# Altium integrated library TI Power Management PCMCIA and USB.IntLib: 328 symbols (part 6 of 14)
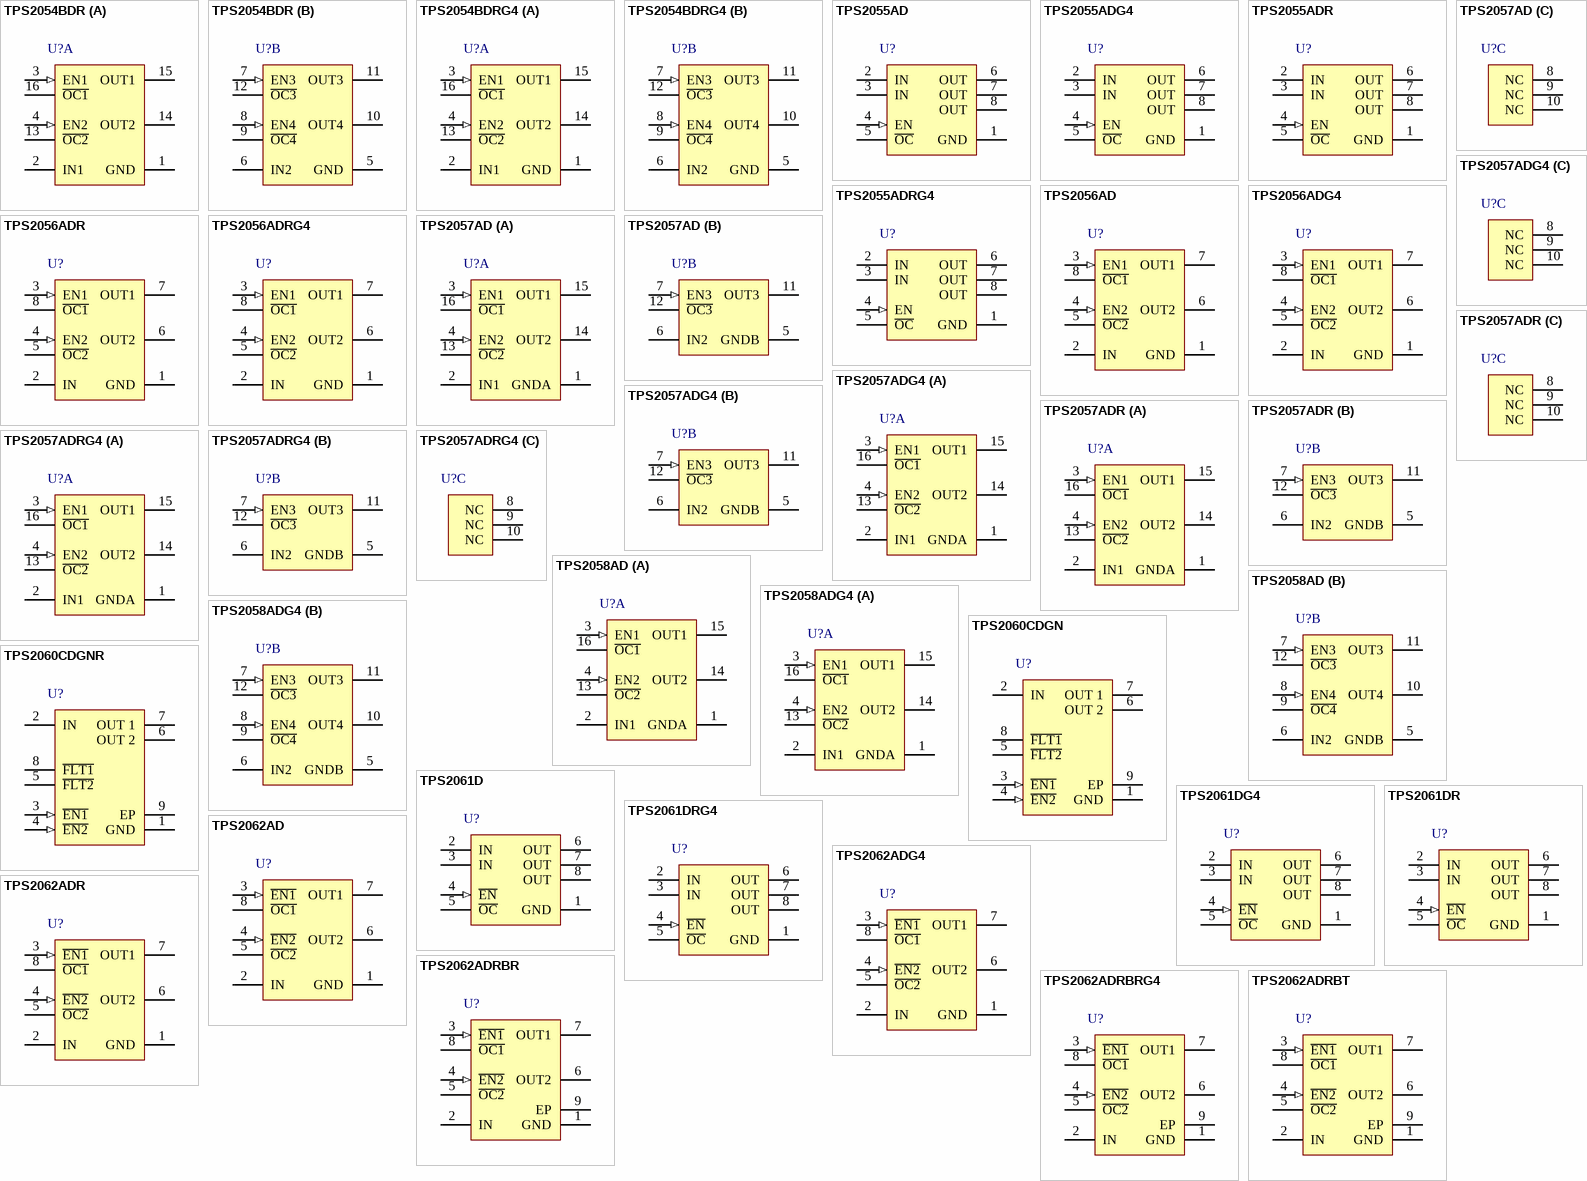
[diagram p15: symbols TPS2054BDR to TPS2062ADRBT]

## TPS2057ADRG4
designator U?
0.345 A, 2.7 to 5.5 V Triple (2 In / 3 Out) Hi-Side MOSFET, Fault Report, Act-High Enable, 0.5 A Current Limit, 0 to 85 degC, 16-pin SOIC (D), Green (RoHS & no Sb/Br); Manufacturer: Texas Instruments; PartNumber: TPS2057ADRG4; Continuous Current(Max)(A): 0.25; Current Limit(A): 0.5; Enable: Active High; NEMKO: TRUE; Number of Switches: 3; Rating: Catalog; rDS(on) per FET(Typ)(mOhms): 80; Vin(Max)(V): 5.5; Vin(Min)(V): 2.7; DatasheetVersion: SLVS251C; PackageVersion: revM, Jun-2011; PackageReference: D16; PackageDescription: 16-Pin Plastic Small Outline Integrated Circuit, 9.9 x 3.9 mm, Pitch 1.27 mm Pitch; Supplier 1: Digi-Key; Supplier Part Number 1: TPS2057ADRG4-ND; Supplier 2: Newark; Supplier Part Number 2: 54K1549; Supplier 3: Mouser; Supplier Part Number 3: 595-TPS2057ADRG4; Eco-Plan: Green (RoHS & no Sb/Br); UL Listed: TRUE; Mounting Technology: Surface Mount; Code_JEDEC: MS-012AC; ComponentLink1Description: Datasheet; ComponentLink1URL: http://www.ti.com/general/docs/lit/getliterature.tsp?genericPartNumber=TPS2057A&fileType=pdf
footprint D16_N (SOIC, 16-Leads, Body 9.9x3.9mm, Pitch 1.27mm, IPC Medium Density)
footprint D16_L (SOIC, 16-Leads, Body 9.9x3.9mm, Pitch 1.27mm, IPC High Density)
footprint D16_M (SOIC, 16-Leads, Body 9.9x3.9mm, Pitch 1.27mm, IPC Low Density)
part A pins: 1 GNDA (power) "Ground for IN1 switch and circuitry.", 2 IN1 (power) "Input voltage", 3 EN1 (in) "Enable input, logic high turns on power switch, IN1-OUT1.", 4 EN2 (in) "Enable input, logic high turns on power switch, IN1-OUT2.", 13 ~{OC2} (oc) "Overcurrent, open drain output active low, IN1-OUT2", 14 OUT2 (power) "Power-switch output, IN1-OUT2", 15 OUT1 (power) "Power-switch output, IN1-OUT1", 16 ~{OC1} (oc) "Overcurrent, open drain output active low, IN1-OUT1"
part B pins: 5 GNDB (power) "Ground for IN2 switch and circuitry.", 6 IN2 (power) "Input voltage", 7 EN3 (in) "Enable input, logic high turns on power switch, IN2-OUT3.", 11 OUT3 (power) "Power-switch output, IN2-OUT3", 12 ~{OC3} (oc) "Overcurrent, open drain output active low, IN2-OUT3"
part C pins: 8 NC "No connection", 9 NC "No connection", 10 NC "No connection"

## TPS2058AD
designator U?
0.345 A, 2.7 to 5.5 V Quad (2 In / 4 Out) Hi-Side MOSFET, Fault Report, Act-High Enable, 0.5 A Current Limit, 0 to 85 degC, 16-pin SOIC (D), Green (RoHS & no Sb/Br); Manufacturer: Texas Instruments; PartNumber: TPS2058AD; Continuous Current(Max)(A): 0.25; Current Limit(A): 0.5; Enable: Active High; NEMKO: TRUE; Number of Switches: 4; Rating: Catalog; rDS(on) per FET(Typ)(mOhms): 80; Vin(Max)(V): 5.5; Vin(Min)(V): 2.7; DatasheetVersion: SLVS251C; PackageVersion: revM, Jun-2011; PackageReference: D16; PackageDescription: 16-Pin Plastic Small Outline Integrated Circuit, 9.9 x 3.9 mm, Pitch 1.27 mm Pitch; Supplier 1: Digi-Key; Supplier Part Number 1: 296-3425-5-ND; Supplier 2: Newark; Supplier Part Number 2: 77C0027; Supplier 3: Mouser; Supplier Part Number 3: 595-TPS2058AD; Eco-Plan: Green (RoHS & no Sb/Br); UL Listed: TRUE; Mounting Technology: Surface Mount; Code_JEDEC: MS-012AC; ComponentLink1Description: Datasheet; ComponentLink1URL: http://www.ti.com/general/docs/lit/getliterature.tsp?genericPartNumber=TPS2058A&fileType=pdf
footprint D16_N (SOIC, 16-Leads, Body 9.9x3.9mm, Pitch 1.27mm, IPC Medium Density)
footprint D16_L (SOIC, 16-Leads, Body 9.9x3.9mm, Pitch 1.27mm, IPC High Density)
footprint D16_M (SOIC, 16-Leads, Body 9.9x3.9mm, Pitch 1.27mm, IPC Low Density)
part A pins: 1 GNDA (power) "Ground for IN1 switch and circuitry.", 2 IN1 (power) "Input voltage", 3 EN1 (in) "Enable input. Logic high turns on power switch, IN1-OUT1.", 4 EN2 (in) "Enable input. Logic high turns on power switch, IN1-OUT2.", 13 ~{OC2} (oc) "Overcurrent. Open drain output active low, IN1-OUT2", 14 OUT2 (power) "Power-switch output, IN1-OUT2", 15 OUT1 (power) "Power-switch output, IN1-OUT1", 16 ~{OC1} (oc) "Overcurrent. Open drain output active low, IN1-OUT1"
part B pins: 5 GNDB (power) "Ground for IN2 switch and circuitry.", 6 IN2 (power) "Input voltage", 7 EN3 (in) "Enable input. Logic high turns on power switch, IN2-OUT3.", 8 EN4 (in) "Enable input. Logic high turns on power switch, IN2-OUT4", 9 ~{OC4} (oc) "Overcurrent. Open drain output active low, IN2-OUT4", 10 OUT4 (power) "Power-switch output, IN2-OUT4", 11 OUT3 (power) "Power-switch output, IN2-OUT3", 12 ~{OC3} (oc) "Overcurrent. Open drain output active low, IN2-OUT3"

## TPS2058ADG4
designator U?
0.345 A, 2.7 to 5.5 V Quad (2 In / 4 Out) Hi-Side MOSFET, Fault Report, Act-High Enable, 0.5 A Current Limit, 0 to 85 degC, 16-pin SOIC (D), Green (RoHS & no Sb/Br); Manufacturer: Texas Instruments; PartNumber: TPS2058ADG4; Continuous Current(Max)(A): 0.25; Current Limit(A): 0.5; Enable: Active High; NEMKO: TRUE; Number of Switches: 4; Rating: Catalog; rDS(on) per FET(Typ)(mOhms): 80; Vin(Max)(V): 5.5; Vin(Min)(V): 2.7; DatasheetVersion: SLVS251C; PackageVersion: revM, Jun-2011; PackageReference: D16; PackageDescription: 16-Pin Plastic Small Outline Integrated Circuit, 9.9 x 3.9 mm, Pitch 1.27 mm Pitch; Supplier 1: Digi-Key; Supplier Part Number 1: TPS2058ADG4-ND; Supplier 2: Newark; Supplier Part Number 2: 70K5698; Supplier 3: Mouser; Supplier Part Number 3: 595-TPS2058ADG4; Eco-Plan: Green (RoHS & no Sb/Br); UL Listed: TRUE; Mounting Technology: Surface Mount; Code_JEDEC: MS-012AC; ComponentLink1Description: Datasheet; ComponentLink1URL: http://www.ti.com/general/docs/lit/getliterature.tsp?genericPartNumber=TPS2058A&fileType=pdf
footprint D16_N (SOIC, 16-Leads, Body 9.9x3.9mm, Pitch 1.27mm, IPC Medium Density)
footprint D16_L (SOIC, 16-Leads, Body 9.9x3.9mm, Pitch 1.27mm, IPC High Density)
footprint D16_M (SOIC, 16-Leads, Body 9.9x3.9mm, Pitch 1.27mm, IPC Low Density)
part A pins: 1 GNDA (power) "Ground for IN1 switch and circuitry.", 2 IN1 (power) "Input voltage", 3 EN1 (in) "Enable input. Logic high turns on power switch, IN1-OUT1.", 4 EN2 (in) "Enable input. Logic high turns on power switch, IN1-OUT2.", 13 ~{OC2} (oc) "Overcurrent. Open drain output active low, IN1-OUT2", 14 OUT2 (power) "Power-switch output, IN1-OUT2", 15 OUT1 (power) "Power-switch output, IN1-OUT1", 16 ~{OC1} (oc) "Overcurrent. Open drain output active low, IN1-OUT1"
part B pins: 5 GNDB (power) "Ground for IN2 switch and circuitry.", 6 IN2 (power) "Input voltage", 7 EN3 (in) "Enable input. Logic high turns on power switch, IN2-OUT3.", 8 EN4 (in) "Enable input. Logic high turns on power switch, IN2-OUT4", 9 ~{OC4} (oc) "Overcurrent. Open drain output active low, IN2-OUT4", 10 OUT4 (power) "Power-switch output, IN2-OUT4", 11 OUT3 (power) "Power-switch output, IN2-OUT3", 12 ~{OC3} (oc) "Overcurrent. Open drain output active low, IN2-OUT3"

## TPS2060CDGN
designator U?
Dual-Channel, Current-Limited, Power-Distribution Switch, 1.72 to 2.86 A Current Limit, -40 to 85 degC, 8-pin MSOP-PowerPAD (DGN), Green (RoHS & no Sb/Br); Manufacturer: Texas Instruments; PartNumber: TPS2060CDGN; Continuous Current(Max)(A): 1.5; Current Limit Accuracy @ 1A: +/- 25%; Current Limit Topology: Constant-Current; Enable: Active Low; Number of Switches: 2; Rating: Catalog; rDS(on) per FET(Typ)(mOhms): 70; Vin(Max)(V): 5.5; Vin(Min)(V): 4.5; DatasheetVersion: SLVSAX6E; PackageVersion: revF, May-2011; PackageReference: DGN8-1760X1425TP; PackageDescription: 8-Pin PowerPAD Plastic Small Outline Package 3 x 3 mm Body ,0.65 mm Pitch, Exposed Pad; Supplier 1: Digi-Key; Supplier Part Number 1: 296-30411-5-ND; Supplier 2: Farnell; Supplier Part Number 2: 2099915; Supplier 3: Newark; Supplier Part Number 3: 05W5844; Supplier 4: Newark; Supplier Part Number 4: 94T1844; Supplier 5: Mouser; Supplier Part Number 5: 595-TPS2060CDGN; Current Limit(A): 1.72 to 2.86; Eco-Plan: Green (RoHS & no Sb/Br); Mounting Technology: Surface Mount; Code_JEDEC: MO-187-AA-T; ComponentLink1Description: Datasheet; ComponentLink1URL: http://www.ti.com/general/docs/lit/getliterature.tsp?genericPartNumber=TPS2060C&fileType=pdf
footprint DGN8-1760X1425TP_N (TSOP, 8-Leads, Body 3x3mm, Pitch 0.65mm, Thermal Pad 1.89x1.57mm, IPC Medium Density)
footprint DGN8-1760X1425TP_L (TSOP, 8-Leads, Body 3x3mm, Pitch 0.65mm, Thermal Pad 1.89x1.57mm, IPC High Density)
footprint DGN8-1760X1425TP_M (TSOP, 8-Leads, Body 3x3mm, Pitch 0.65mm, Thermal Pad 1.89x1.57mm, IPC Low Density)
pins: 1 GND (power) "Ground connection", 2 IN (power) "Input voltage and power-switch drain; connect a 0.1 uF or greater ceramic capacitor from IN to GND close to the IC", 3 ~{EN1} (in) "Enable input channel 1, logic low turns on power switch", 4 ~{EN2} (in) "Enable input channel 2, logic low turns on power switch", 5 ~{FLT2} (hiz) "Active-low open-drain output, asserted during overcurrent, or overtemperature conditions on channel 2", 6 OUT 2 (power) "Power-switch output channel 2, connected to load", 7 OUT 1 (power) "Power-switch output channel 1, connected to load", 8 ~{FLT1} (hiz) "Active-low open-drain output, asserted during over-current, or overtemperature conditions on channel 1", 9 EP (power) "Internally connected to GND; used to heat-sink the part to the circuit board traces. Connect PAD to GND plane as a heatsink."

## TPS2060CDGNR
designator U?
Dual-Channel, Current-Limited, Power-Distribution Switch, 1.72 to 2.86 A Current Limit, -40 to 85 degC, 8-pin MSOP-PowerPAD (DGN), Green (RoHS & no Sb/Br); Manufacturer: Texas Instruments; PartNumber: TPS2060CDGNR; Continuous Current(Max)(A): 1.5; Current Limit Accuracy @ 1A: +/- 25%; Current Limit Topology: Constant-Current; Enable: Active Low; Number of Switches: 2; Rating: Catalog; rDS(on) per FET(Typ)(mOhms): 70; Vin(Max)(V): 5.5; Vin(Min)(V): 4.5; DatasheetVersion: SLVSAX6E; PackageVersion: revF, May-2011; PackageReference: DGN8-1760X1425TP; PackageDescription: 8-Pin PowerPAD Plastic Small Outline Package 3 x 3 mm Body ,0.65 mm Pitch, Exposed Pad; Supplier 1: Digi-Key; Supplier Part Number 1: TPS2060CDGNR-ND; Supplier 2: Newark; Supplier Part Number 2: 94T1845; Supplier 3: Mouser; Supplier Part Number 3: 595-TPS2060CDGNR; Current Limit(A): 1.72 to 2.86; Eco-Plan: Green (RoHS & no Sb/Br); Mounting Technology: Surface Mount; Code_JEDEC: MO-187-AA-T; ComponentLink1Description: Datasheet; ComponentLink1URL: http://www.ti.com/general/docs/lit/getliterature.tsp?genericPartNumber=TPS2060C&fileType=pdf
footprint DGN8-1760X1425TP_N (TSOP, 8-Leads, Body 3x3mm, Pitch 0.65mm, Thermal Pad 1.89x1.57mm, IPC Medium Density)
footprint DGN8-1760X1425TP_L (TSOP, 8-Leads, Body 3x3mm, Pitch 0.65mm, Thermal Pad 1.89x1.57mm, IPC High Density)
footprint DGN8-1760X1425TP_M (TSOP, 8-Leads, Body 3x3mm, Pitch 0.65mm, Thermal Pad 1.89x1.57mm, IPC Low Density)
pins: 1 GND (power) "Ground connection", 2 IN (power) "Input voltage and power-switch drain; connect a 0.1 uF or greater ceramic capacitor from IN to GND close to the IC", 3 ~{EN1} (in) "Enable input channel 1, logic low turns on power switch", 4 ~{EN2} (in) "Enable input channel 2, logic low turns on power switch", 5 ~{FLT2} (hiz) "Active-low open-drain output, asserted during overcurrent, or overtemperature conditions on channel 2", 6 OUT 2 (power) "Power-switch output channel 2, connected to load", 7 OUT 1 (power) "Power-switch output channel 1, connected to load", 8 ~{FLT1} (hiz) "Active-low open-drain output, asserted during over-current, or overtemperature conditions on channel 1", 9 EP (power) "Internally connected to GND; used to heat-sink the part to the circuit board traces. Connect PAD to GND plane as a heatsink."

## TPS2061D
designator U?
Single 1 A Current-Limited, Power-Distribution Switch, 1.5 A Current Limit, -40 to 85 degC, 8-pin SOIC (D), Green (RoHS & no Sb/Br); Manufacturer: Texas Instruments; PartNumber: TPS2061D; Continuous Current(Max)(A): 1; Current Limit(A): 1.5; Enable: Active Low; NEMKO: TRUE; Rating: Catalog; rDS(on) per FET(Typ)(mOhms): 70; Vin(Max)(V): 5.5; Vin(Min)(V): 2.7; DatasheetVersion: SLVS490I; PackageVersion: revM, Jun-2011; PackageReference: D8; PackageDescription: 8-Pin Plastic Small Outline Integrated Circuit, 4.9 x 3.9 mm, Pitch 1.27 mm Pitch; Supplier 1: Digi-Key; Supplier Part Number 1: 296-18024-5-ND; Supplier 2: Farnell; Supplier Part Number 2: 1755536; Supplier 3: Newark; Supplier Part Number 3: 65J6887; Supplier 4: Mouser; Supplier Part Number 4: 595-TPS2061D; Eco-Plan: Green (RoHS & no Sb/Br); Number of Switches: 1; UL Listed: TRUE; Mounting Technology: Surface Mount; Code_JEDEC: MS-012AA; ComponentLink1Description: Datasheet; ComponentLink1URL: http://www.ti.com/general/docs/lit/getliterature.tsp?genericPartNumber=TPS2061&fileType=pdf
footprint D8_N (SOIC, 8-Leads, Body 4.9x3.9mm, Pitch 1.27mm, IPC Medium Density)
footprint D8_L (SOIC, 8-Leads, Body 4.9x3.9mm, Pitch 1.27mm, IPC High Density)
footprint D8_M (SOIC, 8-Leads, Body 4.9x3.9mm, Pitch 1.27mm, IPC Low Density)
pins: 1 GND (power) "Ground", 2 IN (power) "Input voltage", 3 IN (power) "Input voltage", 4 ~{EN} (in) "Enable input, logic low turns on power switch", 5 ~{OC} (oc) "Overcurrent, open-drain output, active-low", 6 OUT (power) "Power-switch output", 7 OUT (power) "Power-switch output", 8 OUT (power) "Power-switch output"

## TPS2061DG4
designator U?
Single 1 A Current-Limited, Power-Distribution Switch, 1.5 A Current Limit, -40 to 85 degC, 8-pin SOIC (D), Green (RoHS & no Sb/Br); Manufacturer: Texas Instruments; PartNumber: TPS2061DG4; Continuous Current(Max)(A): 1; Current Limit(A): 1.5; Enable: Active Low; NEMKO: TRUE; Rating: Catalog; rDS(on) per FET(Typ)(mOhms): 70; Vin(Max)(V): 5.5; Vin(Min)(V): 2.7; DatasheetVersion: SLVS490I; PackageVersion: revM, Jun-2011; PackageReference: D8; PackageDescription: 8-Pin Plastic Small Outline Integrated Circuit, 4.9 x 3.9 mm, Pitch 1.27 mm Pitch; Supplier 1: Digi-Key; Supplier Part Number 1: TPS2061DG4-ND; Supplier 2: Newark; Supplier Part Number 2: 33K7540; Supplier 3: Mouser; Supplier Part Number 3: 595-TPS2061DG4; Eco-Plan: Green (RoHS & no Sb/Br); Number of Switches: 1; UL Listed: TRUE; Mounting Technology: Surface Mount; Code_JEDEC: MS-012AA; ComponentLink1Description: Datasheet; ComponentLink1URL: http://www.ti.com/general/docs/lit/getliterature.tsp?genericPartNumber=TPS2061&fileType=pdf
footprint D8_N (SOIC, 8-Leads, Body 4.9x3.9mm, Pitch 1.27mm, IPC Medium Density)
footprint D8_L (SOIC, 8-Leads, Body 4.9x3.9mm, Pitch 1.27mm, IPC High Density)
footprint D8_M (SOIC, 8-Leads, Body 4.9x3.9mm, Pitch 1.27mm, IPC Low Density)
pins: 1 GND (power) "Ground", 2 IN (power) "Input voltage", 3 IN (power) "Input voltage", 4 ~{EN} (in) "Enable input, logic low turns on power switch", 5 ~{OC} (oc) "Overcurrent, open-drain output, active-low", 6 OUT (power) "Power-switch output", 7 OUT (power) "Power-switch output", 8 OUT (power) "Power-switch output"

## TPS2061DR
designator U?
Single 1 A Current-Limited, Power-Distribution Switch, 1.5 A Current Limit, -40 to 85 degC, 8-pin SOIC (D), Green (RoHS & no Sb/Br); Manufacturer: Texas Instruments; PartNumber: TPS2061DR; Continuous Current(Max)(A): 1; Current Limit(A): 1.5; Enable: Active Low; NEMKO: TRUE; Rating: Catalog; rDS(on) per FET(Typ)(mOhms): 70; Vin(Max)(V): 5.5; Vin(Min)(V): 2.7; DatasheetVersion: SLVS490I; PackageVersion: revM, Jun-2011; PackageReference: D8; PackageDescription: 8-Pin Plastic Small Outline Integrated Circuit, 4.9 x 3.9 mm, Pitch 1.27 mm Pitch; Supplier 1: Digi-Key; Supplier Part Number 1: 296-26914-2-ND; Supplier 2: Digi-Key; Supplier Part Number 2: 296-26914-1-ND; Supplier 3: Digi-Key; Supplier Part Number 3: 296-26914-6-ND; Supplier 4: Newark; Supplier Part Number 4: 65J6888; Supplier 5: Mouser; Supplier Part Number 5: 595-TPS2061DR; Eco-Plan: Green (RoHS & no Sb/Br); Number of Switches: 1; UL Listed: TRUE; Mounting Technology: Surface Mount; Code_JEDEC: MS-012AA; ComponentLink1Description: Datasheet; ComponentLink1URL: http://www.ti.com/general/docs/lit/getliterature.tsp?genericPartNumber=TPS2061&fileType=pdf
footprint D8_N (SOIC, 8-Leads, Body 4.9x3.9mm, Pitch 1.27mm, IPC Medium Density)
footprint D8_L (SOIC, 8-Leads, Body 4.9x3.9mm, Pitch 1.27mm, IPC High Density)
footprint D8_M (SOIC, 8-Leads, Body 4.9x3.9mm, Pitch 1.27mm, IPC Low Density)
pins: 1 GND (power) "Ground", 2 IN (power) "Input voltage", 3 IN (power) "Input voltage", 4 ~{EN} (in) "Enable input, logic low turns on power switch", 5 ~{OC} (oc) "Overcurrent, open-drain output, active-low", 6 OUT (power) "Power-switch output", 7 OUT (power) "Power-switch output", 8 OUT (power) "Power-switch output"

## TPS2061DRG4
designator U?
Single 1 A Current-Limited, Power-Distribution Switch, 1.5 A Current Limit, -40 to 85 degC, 8-pin SOIC (D), Green (RoHS & no Sb/Br); Manufacturer: Texas Instruments; PartNumber: TPS2061DRG4; Continuous Current(Max)(A): 1; Current Limit(A): 1.5; Enable: Active Low; NEMKO: TRUE; Rating: Catalog; rDS(on) per FET(Typ)(mOhms): 70; Vin(Max)(V): 5.5; Vin(Min)(V): 2.7; DatasheetVersion: SLVS490I; PackageVersion: revM, Jun-2011; PackageReference: D8; PackageDescription: 8-Pin Plastic Small Outline Integrated Circuit, 4.9 x 3.9 mm, Pitch 1.27 mm Pitch; Supplier 1: Digi-Key; Supplier Part Number 1: TPS2061DRG4-ND; Supplier 2: Newark; Supplier Part Number 2: 67K8613; Supplier 3: Mouser; Supplier Part Number 3: 595-TPS2061DRG4; Eco-Plan: Green (RoHS & no Sb/Br); Number of Switches: 1; UL Listed: TRUE; Mounting Technology: Surface Mount; Code_JEDEC: MS-012AA; ComponentLink1Description: Datasheet; ComponentLink1URL: http://www.ti.com/general/docs/lit/getliterature.tsp?genericPartNumber=TPS2061&fileType=pdf
footprint D8_N (SOIC, 8-Leads, Body 4.9x3.9mm, Pitch 1.27mm, IPC Medium Density)
footprint D8_L (SOIC, 8-Leads, Body 4.9x3.9mm, Pitch 1.27mm, IPC High Density)
footprint D8_M (SOIC, 8-Leads, Body 4.9x3.9mm, Pitch 1.27mm, IPC Low Density)
pins: 1 GND (power) "Ground", 2 IN (power) "Input voltage", 3 IN (power) "Input voltage", 4 ~{EN} (in) "Enable input, logic low turns on power switch", 5 ~{OC} (oc) "Overcurrent, open-drain output, active-low", 6 OUT (power) "Power-switch output", 7 OUT (power) "Power-switch output", 8 OUT (power) "Power-switch output"

## TPS2062AD
designator U?
Current-limited, Power-Distribution Switch, 1.9 A Current Limit, -40 to 85 degC, 8-pin SOIC (D), Green (RoHS & no Sb/Br); Manufacturer: Texas Instruments; PartNumber: TPS2062AD; Continuous Current(Max)(A): 1; Current Limit(A): 1.9; Enable: Active Low; Number of Switches: 2; Rating: Catalog; rDS(on) per FET(Typ)(mOhms): 70; Vin(Max)(V): 5.5; Vin(Min)(V): 2.7; DatasheetVersion: SLVS798F; PackageVersion: revM, Jun-2011; PackageReference: D8; PackageDescription: 8-Pin Plastic Small Outline Integrated Circuit, 4.9 x 3.9 mm, Pitch 1.27 mm Pitch; Supplier 1: Digi-Key; Supplier Part Number 1: 296-34587-5-ND; Supplier 2: Newark; Supplier Part Number 2: 85M0198; Supplier 3: Mouser; Supplier Part Number 3: 595-TPS2062AD; Eco-Plan: Green (RoHS & no Sb/Br); Mounting Technology: Surface Mount; Code_JEDEC: MS-012AA; ComponentLink1Description: Datasheet; ComponentLink1URL: http://www.ti.com/general/docs/lit/getliterature.tsp?genericPartNumber=TPS2062A&fileType=pdf
footprint D8_N (SOIC, 8-Leads, Body 4.9x3.9mm, Pitch 1.27mm, IPC Medium Density)
footprint D8_L (SOIC, 8-Leads, Body 4.9x3.9mm, Pitch 1.27mm, IPC High Density)
footprint D8_M (SOIC, 8-Leads, Body 4.9x3.9mm, Pitch 1.27mm, IPC Low Density)
pins: 1 GND (power) "Ground", 2 IN (power) "Input voltage", 3 ~{EN1} (in) "Enable input, logic low turns on power switch IN-OUT1", 4 ~{EN2} (in) "Enable input, logic low turns on power switch IN-OUT2", 5 ~{OC2} (oc) "Channel 2 over-current indicator; the output is open-drain, active low type", 6 OUT2 (power) "Power-switch output, IN-OUT2", 7 OUT1 (power) "Power-switch output, IN-OUT1", 8 ~{OC1} (oc) "Channel 1 over-current indicator; the output is open-drain, active low type"

## TPS2062ADG4
designator U?
Current-limited, Power-Distribution Switch, 1.9 A Current Limit, -40 to 85 degC, 8-pin SOIC (D), Green (RoHS & no Sb/Br); Manufacturer: Texas Instruments; PartNumber: TPS2062ADG4; Continuous Current(Max)(A): 1; Current Limit(A): 1.9; Enable: Active Low; Number of Switches: 2; Rating: Catalog; rDS(on) per FET(Typ)(mOhms): 70; Vin(Max)(V): 5.5; Vin(Min)(V): 2.7; DatasheetVersion: SLVS798F; PackageVersion: revM, Jun-2011; PackageReference: D8; PackageDescription: 8-Pin Plastic Small Outline Integrated Circuit, 4.9 x 3.9 mm, Pitch 1.27 mm Pitch; Supplier 1: Digi-Key; Supplier Part Number 1: TPS2062ADG4-ND; Supplier 2: Mouser; Supplier Part Number 2: 595-TPS2062ADG4; Eco-Plan: Green (RoHS & no Sb/Br); Mounting Technology: Surface Mount; Code_JEDEC: MS-012AA; ComponentLink1Description: Datasheet; ComponentLink1URL: http://www.ti.com/general/docs/lit/getliterature.tsp?genericPartNumber=TPS2062A&fileType=pdf
footprint D8_N (SOIC, 8-Leads, Body 4.9x3.9mm, Pitch 1.27mm, IPC Medium Density)
footprint D8_L (SOIC, 8-Leads, Body 4.9x3.9mm, Pitch 1.27mm, IPC High Density)
footprint D8_M (SOIC, 8-Leads, Body 4.9x3.9mm, Pitch 1.27mm, IPC Low Density)
pins: 1 GND (power) "Ground", 2 IN (power) "Input voltage", 3 ~{EN1} (in) "Enable input, logic low turns on power switch IN-OUT1", 4 ~{EN2} (in) "Enable input, logic low turns on power switch IN-OUT2", 5 ~{OC2} (oc) "Channel 2 over-current indicator; the output is open-drain, active low type", 6 OUT2 (power) "Power-switch output, IN-OUT2", 7 OUT1 (power) "Power-switch output, IN-OUT1", 8 ~{OC1} (oc) "Channel 1 over-current indicator; the output is open-drain, active low type"

## TPS2062ADR
designator U?
Current-limited, Power-Distribution Switch, 1.9 A Current Limit, -40 to 85 degC, 8-pin SOIC (D), Green (RoHS & no Sb/Br); Manufacturer: Texas Instruments; PartNumber: TPS2062ADR; Continuous Current(Max)(A): 1; Current Limit(A): 1.9; Enable: Active Low; Number of Switches: 2; Rating: Catalog; rDS(on) per FET(Typ)(mOhms): 70; Vin(Max)(V): 5.5; Vin(Min)(V): 2.7; DatasheetVersion: SLVS798F; PackageVersion: revM, Jun-2011; PackageReference: D8; PackageDescription: 8-Pin Plastic Small Outline Integrated Circuit, 4.9 x 3.9 mm, Pitch 1.27 mm Pitch; Supplier 1: Digi-Key; Supplier Part Number 1: 296-23100-2-ND; Supplier 2: Digi-Key; Supplier Part Number 2: 296-23100-1-ND; Supplier 3: Digi-Key; Supplier Part Number 3: 296-23100-6-ND; Supplier 4: Newark; Supplier Part Number 4: 85M0199; Supplier 5: Mouser; Supplier Part Number 5: 595-TPS2062ADR; Eco-Plan: Green (RoHS & no Sb/Br); Mounting Technology: Surface Mount; Code_JEDEC: MS-012AA; ComponentLink1Description: Datasheet; ComponentLink1URL: http://www.ti.com/general/docs/lit/getliterature.tsp?genericPartNumber=TPS2062A&fileType=pdf
footprint D8_N (SOIC, 8-Leads, Body 4.9x3.9mm, Pitch 1.27mm, IPC Medium Density)
footprint D8_L (SOIC, 8-Leads, Body 4.9x3.9mm, Pitch 1.27mm, IPC High Density)
footprint D8_M (SOIC, 8-Leads, Body 4.9x3.9mm, Pitch 1.27mm, IPC Low Density)
pins: 1 GND (power) "Ground", 2 IN (power) "Input voltage", 3 ~{EN1} (in) "Enable input, logic low turns on power switch IN-OUT1", 4 ~{EN2} (in) "Enable input, logic low turns on power switch IN-OUT2", 5 ~{OC2} (oc) "Channel 2 over-current indicator; the output is open-drain, active low type", 6 OUT2 (power) "Power-switch output, IN-OUT2", 7 OUT1 (power) "Power-switch output, IN-OUT1", 8 ~{OC1} (oc) "Channel 1 over-current indicator; the output is open-drain, active low type"

## TPS2062ADRBR
designator U?
Current-limited, Power-Distribution Switch, 1.9 A Current Limit, -40 to 85 degC, 8-pin SON (DRB), Green (RoHS & no Sb/Br); Manufacturer: Texas Instruments; PartNumber: TPS2062ADRBR; Continuous Current(Max)(A): 1; Current Limit(A): 1.9; Enable: Active Low; Number of Switches: 2; Rating: Catalog; rDS(on) per FET(Typ)(mOhms): 70; Vin(Max)(V): 5.5; Vin(Min)(V): 2.7; DatasheetVersion: SLVS798F; PackageVersion: revK, Jun-2012; PackageReference: DRB8-2400X1650TP; PackageDescription: 8-Pin Plastic Small Outline No-Lead, 3 x 3 x 1 mm Body, 0.65 mm Pitch, Exposed Pad; Supplier 1: Digi-Key; Supplier Part Number 1: 296-23325-2-ND; Supplier 2: Digi-Key; Supplier Part Number 2: 296-23325-1-ND; Supplier 3: Digi-Key; Supplier Part Number 3: 296-23325-6-ND; Supplier 4: Mouser; Supplier Part Number 4: 595-TPS2062ADRBR; Eco-Plan: Green (RoHS & no Sb/Br); Mounting Technology: Surface Mount; ComponentLink1Description: Datasheet; ComponentLink1URL: http://www.ti.com/general/docs/lit/getliterature.tsp?genericPartNumber=TPS2062A&fileType=pdf
footprint DRB8-2400X1650TP (SON, 8-Leads, Body 3x3mm, Pitch 0.65mm, Thermal Pad 2.4x1.65mm, TI Recommended)
pins: 1 GND (power) "Ground", 2 IN (power) "Input voltage", 3 ~{EN1} (in) "Enable input, logic low turns on power switch IN-OUT1", 4 ~{EN2} (in) "Enable input, logic low turns on power switch IN-OUT2", 5 ~{OC2} (oc) "Channel 2 over-current indicator; the output is open-drain, active low type", 6 OUT2 (power) "Power-switch output, IN-OUT2", 7 OUT1 (power) "Power-switch output, IN-OUT1", 8 ~{OC1} (oc) "Channel 1 over-current indicator; the output is open-drain, active low type", 9 EP (power) "Connect PowerPAD to GND for proper operation (DRB package only)"

## TPS2062ADRBRG4
designator U?
Current-limited, Power-Distribution Switch, 1.9 A Current Limit, -40 to 85 degC, 8-pin SON (DRB), Green (RoHS & no Sb/Br); Manufacturer: Texas Instruments; PartNumber: TPS2062ADRBRG4; Continuous Current(Max)(A): 1; Current Limit(A): 1.9; Enable: Active Low; Number of Switches: 2; Rating: Catalog; rDS(on) per FET(Typ)(mOhms): 70; Vin(Max)(V): 5.5; Vin(Min)(V): 2.7; DatasheetVersion: SLVS798F; PackageVersion: revK, Jun-2012; PackageReference: DRB8-2400X1650TP; PackageDescription: 8-Pin Plastic Small Outline No-Lead, 3 x 3 x 1 mm Body, 0.65 mm Pitch, Exposed Pad; Supplier 1: Digi-Key; Supplier Part Number 1: TPS2062ADRBRG4-ND; Supplier 2: Mouser; Supplier Part Number 2: 595-TPS2062ADRBRG4; Eco-Plan: Green (RoHS & no Sb/Br); Mounting Technology: Surface Mount; ComponentLink1Description: Datasheet; ComponentLink1URL: http://www.ti.com/general/docs/lit/getliterature.tsp?genericPartNumber=TPS2062A&fileType=pdf
footprint DRB8-2400X1650TP (SON, 8-Leads, Body 3x3mm, Pitch 0.65mm, Thermal Pad 2.4x1.65mm, TI Recommended)
pins: 1 GND (power) "Ground", 2 IN (power) "Input voltage", 3 ~{EN1} (in) "Enable input, logic low turns on power switch IN-OUT1", 4 ~{EN2} (in) "Enable input, logic low turns on power switch IN-OUT2", 5 ~{OC2} (oc) "Channel 2 over-current indicator; the output is open-drain, active low type", 6 OUT2 (power) "Power-switch output, IN-OUT2", 7 OUT1 (power) "Power-switch output, IN-OUT1", 8 ~{OC1} (oc) "Channel 1 over-current indicator; the output is open-drain, active low type", 9 EP (power) "Connect PowerPAD to GND for proper operation (DRB package only)"

## TPS2062ADRBT
designator U?
Current-limited, Power-Distribution Switch, 1.9 A Current Limit, -40 to 85 degC, 8-pin SON (DRB), Green (RoHS & no Sb/Br); Manufacturer: Texas Instruments; PartNumber: TPS2062ADRBT; Continuous Current(Max)(A): 1; Current Limit(A): 1.9; Enable: Active Low; Number of Switches: 2; Rating: Catalog; rDS(on) per FET(Typ)(mOhms): 70; Vin(Max)(V): 5.5; Vin(Min)(V): 2.7; DatasheetVersion: SLVS798F; PackageVersion: revK, Jun-2012; PackageReference: DRB8-2400X1650TP; PackageDescription: 8-Pin Plastic Small Outline No-Lead, 3 x 3 x 1 mm Body, 0.65 mm Pitch, Exposed Pad; Supplier 1: Digi-Key; Supplier Part Number 1: TPS2062ADRBT-ND; Supplier 2: Mouser; Supplier Part Number 2: 595-TPS2062ADRBT; Eco-Plan: Green (RoHS & no Sb/Br); Mounting Technology: Surface Mount; ComponentLink1Description: Datasheet; ComponentLink1URL: http://www.ti.com/general/docs/lit/getliterature.tsp?genericPartNumber=TPS2062A&fileType=pdf
footprint DRB8-2400X1650TP (SON, 8-Leads, Body 3x3mm, Pitch 0.65mm, Thermal Pad 2.4x1.65mm, TI Recommended)
pins: 1 GND (power) "Ground", 2 IN (power) "Input voltage", 3 ~{EN1} (in) "Enable input, logic low turns on power switch IN-OUT1", 4 ~{EN2} (in) "Enable input, logic low turns on power switch IN-OUT2", 5 ~{OC2} (oc) "Channel 2 over-current indicator; the output is open-drain, active low type", 6 OUT2 (power) "Power-switch output, IN-OUT2", 7 OUT1 (power) "Power-switch output, IN-OUT1", 8 ~{OC1} (oc) "Channel 1 over-current indicator; the output is open-drain, active low type", 9 EP (power) "Connect PowerPAD to GND for proper operation (DRB package only)"

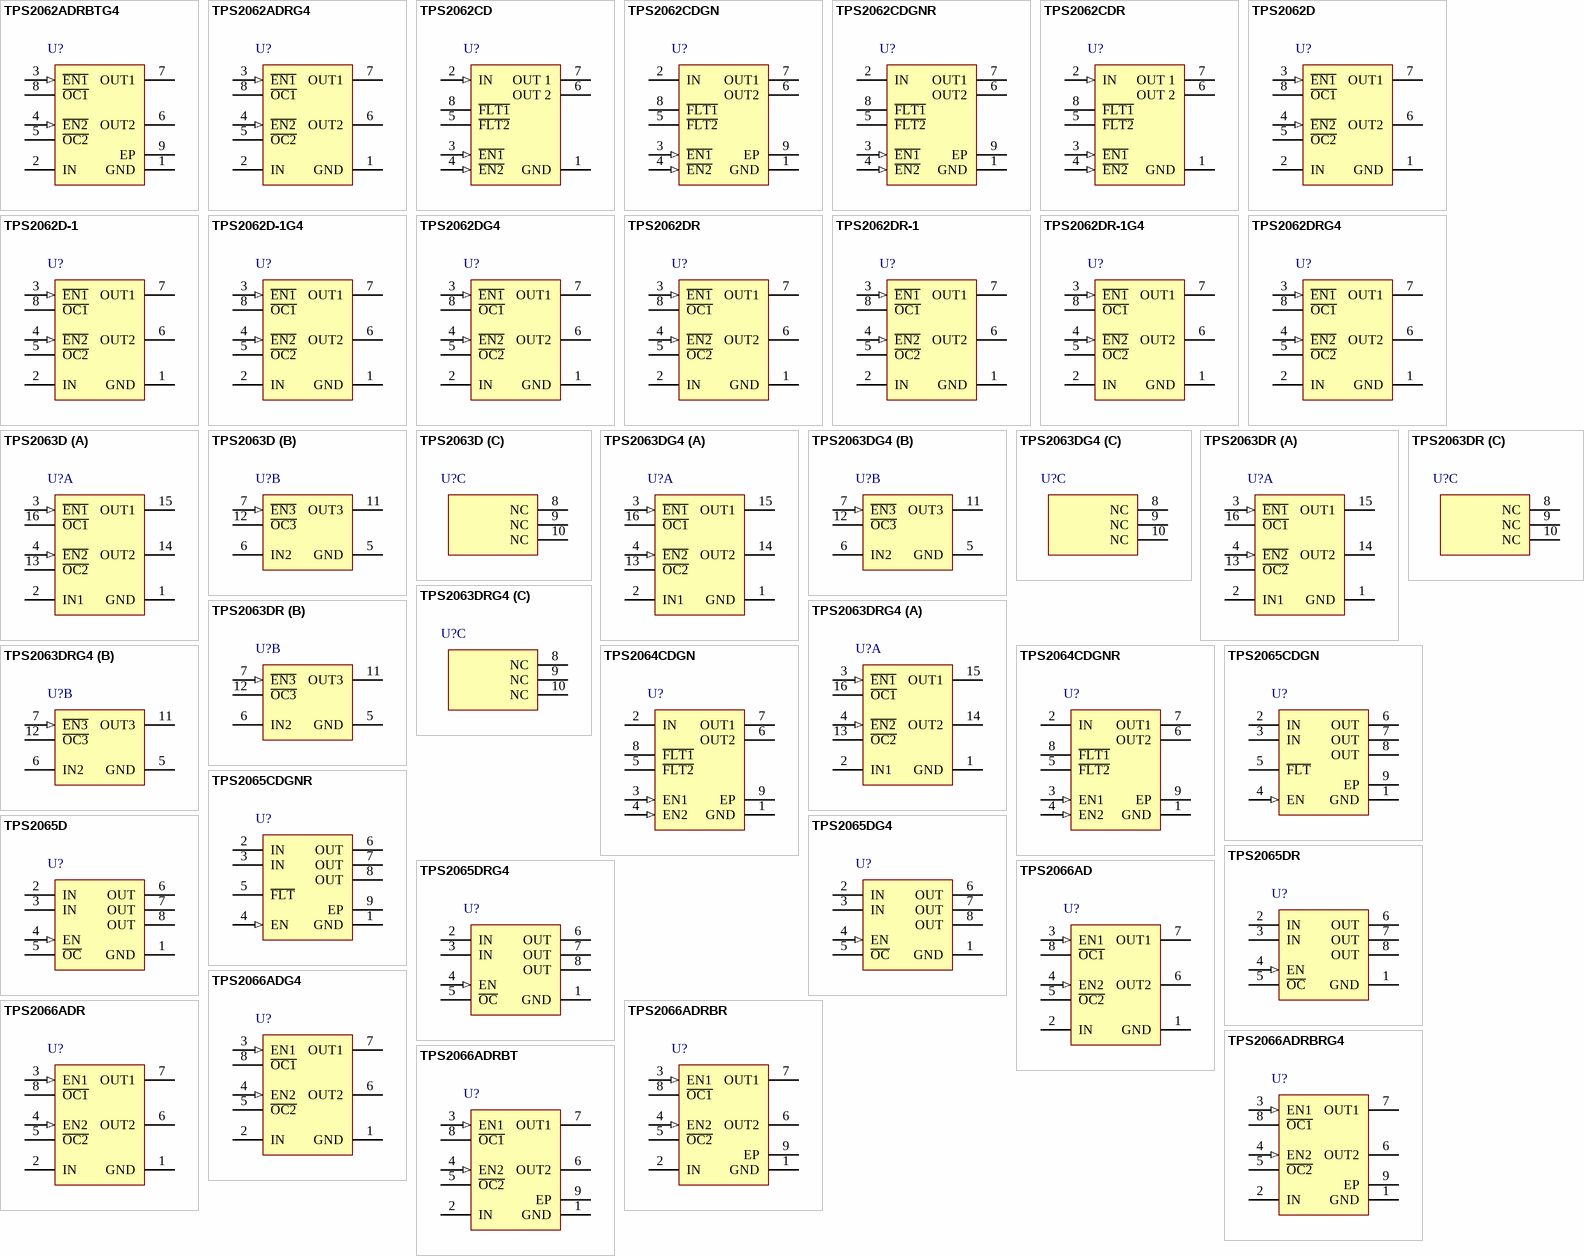
[diagram p5: symbols TPS2062ADRBTG4 to TPS2066ADRBT]

## TPS2062ADRBTG4
designator U?
Current-limited, Power-Distribution Switch, 1.9 A Current Limit, -40 to 85 degC, 8-pin SON (DRB), Green (RoHS & no Sb/Br); Manufacturer: Texas Instruments; PartNumber: TPS2062ADRBTG4; Continuous Current(Max)(A): 1; Current Limit(A): 1.9; Enable: Active Low; Number of Switches: 2; Rating: Catalog; rDS(on) per FET(Typ)(mOhms): 70; Vin(Max)(V): 5.5; Vin(Min)(V): 2.7; DatasheetVersion: SLVS798F; PackageVersion: revK, Jun-2012; PackageReference: DRB8-2400X1650TP; PackageDescription: 8-Pin Plastic Small Outline No-Lead, 3 x 3 x 1 mm Body, 0.65 mm Pitch, Exposed Pad; Supplier 1: Digi-Key; Supplier Part Number 1: TPS2062ADRBTG4-ND; Supplier 2: Mouser; Supplier Part Number 2: 595-TPS2062ADRBTG4; Eco-Plan: Green (RoHS & no Sb/Br); Mounting Technology: Surface Mount; ComponentLink1Description: Datasheet; ComponentLink1URL: http://www.ti.com/general/docs/lit/getliterature.tsp?genericPartNumber=TPS2062A&fileType=pdf
footprint DRB8-2400X1650TP (SON, 8-Leads, Body 3x3mm, Pitch 0.65mm, Thermal Pad 2.4x1.65mm, TI Recommended)
pins: 1 GND (power) "Ground", 2 IN (power) "Input voltage", 3 ~{EN1} (in) "Enable input, logic low turns on power switch IN-OUT1", 4 ~{EN2} (in) "Enable input, logic low turns on power switch IN-OUT2", 5 ~{OC2} (oc) "Channel 2 over-current indicator; the output is open-drain, active low type", 6 OUT2 (power) "Power-switch output, IN-OUT2", 7 OUT1 (power) "Power-switch output, IN-OUT1", 8 ~{OC1} (oc) "Channel 1 over-current indicator; the output is open-drain, active low type", 9 EP (power) "Connect PowerPAD to GND for proper operation (DRB package only)"

## TPS2062ADRG4
designator U?
Current-limited, Power-Distribution Switch, 1.9 A Current Limit, -40 to 85 degC, 8-pin SOIC (D), Green (RoHS & no Sb/Br); Manufacturer: Texas Instruments; PartNumber: TPS2062ADRG4; Continuous Current(Max)(A): 1; Current Limit(A): 1.9; Enable: Active Low; Number of Switches: 2; Rating: Catalog; rDS(on) per FET(Typ)(mOhms): 70; Vin(Max)(V): 5.5; Vin(Min)(V): 2.7; DatasheetVersion: SLVS798F; PackageVersion: revM, Jun-2011; PackageReference: D8; PackageDescription: 8-Pin Plastic Small Outline Integrated Circuit, 4.9 x 3.9 mm, Pitch 1.27 mm Pitch; Supplier 1: Digi-Key; Supplier Part Number 1: TPS2062ADRG4-ND; Supplier 2: Mouser; Supplier Part Number 2: 595-TPS2062ADRG4; Eco-Plan: Green (RoHS & no Sb/Br); Mounting Technology: Surface Mount; Code_JEDEC: MS-012AA; ComponentLink1Description: Datasheet; ComponentLink1URL: http://www.ti.com/general/docs/lit/getliterature.tsp?genericPartNumber=TPS2062A&fileType=pdf
footprint D8_N (SOIC, 8-Leads, Body 4.9x3.9mm, Pitch 1.27mm, IPC Medium Density)
footprint D8_L (SOIC, 8-Leads, Body 4.9x3.9mm, Pitch 1.27mm, IPC High Density)
footprint D8_M (SOIC, 8-Leads, Body 4.9x3.9mm, Pitch 1.27mm, IPC Low Density)
pins: 1 GND (power) "Ground", 2 IN (power) "Input voltage", 3 ~{EN1} (in) "Enable input, logic low turns on power switch IN-OUT1", 4 ~{EN2} (in) "Enable input, logic low turns on power switch IN-OUT2", 5 ~{OC2} (oc) "Channel 2 over-current indicator; the output is open-drain, active low type", 6 OUT2 (power) "Power-switch output, IN-OUT2", 7 OUT1 (power) "Power-switch output, IN-OUT1", 8 ~{OC1} (oc) "Channel 1 over-current indicator; the output is open-drain, active low type"

## TPS2062CD
designator U?
Dual-Channel, Current-Limited, Power-Distribution Switch, 1.11 to 1.85 A Current Limit, -40 to 85 degC, 8-pin SOIC (D), Green (RoHS & no Sb/Br); Manufacturer: Texas Instruments; PartNumber: TPS2062CD; Continuous Current(Max)(A): 1; Current Limit Accuracy @ 1A: +/- 25%; Current Limit Topology: Constant-Current; Enable: Active Low; Number of Switches: 2; Rating: Catalog; rDS(on) per FET(Typ)(mOhms): 70; Vin(Max)(V): 5.5; Vin(Min)(V): 4.5; DatasheetVersion: SLVSAX6E; PackageVersion: revM, Jun-2011; PackageReference: D8; PackageDescription: 8-Pin Plastic Small Outline Integrated Circuit, 4.9 x 3.9 mm, Pitch 1.27 mm Pitch; Supplier 1: Digi-Key; Supplier Part Number 1: 296-30608-5-ND; Supplier 2: Newark; Supplier Part Number 2: 27W9717; Supplier 3: Mouser; Supplier Part Number 3: 595-TPS2062CD; Current Limit(A): 1.11 to 1.85; Mounting Technology: Surface Mount; Code_JEDEC: MS-012AA; ComponentLink1Description: Datasheet; ComponentLink1URL: http://www.ti.com/general/docs/lit/getliterature.tsp?genericPartNumber=TPS2062C&fileType=pdf
footprint D8_N (SOIC, 8-Leads, Body 4.9x3.9mm, Pitch 1.27mm, IPC Medium Density)
footprint D8_L (SOIC, 8-Leads, Body 4.9x3.9mm, Pitch 1.27mm, IPC High Density)
footprint D8_M (SOIC, 8-Leads, Body 4.9x3.9mm, Pitch 1.27mm, IPC Low Density)
pins: 1 GND (power) "Ground connection", 2 IN (in) "Input voltage and power-switch drain; connect a 0.1 uF or greater ceramic capacitor from IN to GND close to the IC", 3 ~{EN1} (in) "Enable input channel 1, logic low turns on power switch", 4 ~{EN2} (in) "Enable input channel 2, logic low turns on power switch", 5 ~{FLT2} (hiz) "Active-low open-drain output, asserted during overcurrent, or overtemperature conditions on channel 2", 6 OUT 2 (power) "Power-switch output channel 2, connected to load", 7 OUT 1 (power) "Power-switch output channel 1, connected to load", 8 ~{FLT1} (hiz) "Active-low open-drain output, asserted during over-current, or overtemperature conditions on channel 1"

## TPS2062CDGN
designator U?
Dual-Channel, Current-Limited, Power-Distribution Switch, 1.11 to 1.85 A Current Limit, -40 to 85 degC, 8-pin MSOP-PowerPAD (DGN), Green (RoHS & no Sb/Br); Manufacturer: Texas Instruments; PartNumber: TPS2062CDGN; Continuous Current(Max)(A): 1; Current Limit Accuracy @ 1A: +/- 25%; Current Limit Topology: Constant-Current; Enable: Active Low; Number of Switches: 2; Rating: Catalog; rDS(on) per FET(Typ)(mOhms): 70; Vin(Max)(V): 5.5; Vin(Min)(V): 4.5; DatasheetVersion: SLVSAX6E; PackageVersion: revF, May-2011; PackageReference: DGN8-1760X1425TP; PackageDescription: 8-Pin PowerPAD Plastic Small Outline Package 3 x 3 mm Body ,0.65 mm Pitch, Exposed Pad; Supplier 1: Digi-Key; Supplier Part Number 1: 296-30309-5-ND; Supplier 2: Farnell; Supplier Part Number 2: 2099916; Supplier 3: Newark; Supplier Part Number 3: 05W5845; Supplier 4: Newark; Supplier Part Number 4: 92T2355; Supplier 5: Mouser; Supplier Part Number 5: 595-TPS2062CDGN; Current Limit(A): 1.11 to 1.85; Eco-Plan: Green (RoHS & no Sb/Br); Mounting Technology: Surface Mount; Code_JEDEC: MO-187-AA-T; ComponentLink1Description: Datasheet; ComponentLink1URL: http://www.ti.com/general/docs/lit/getliterature.tsp?genericPartNumber=TPS2062C&fileType=pdf
footprint DGN8-1760X1425TP_N (TSOP, 8-Leads, Body 3x3mm, Pitch 0.65mm, Thermal Pad 1.89x1.57mm, IPC Medium Density)
footprint DGN8-1760X1425TP_L (TSOP, 8-Leads, Body 3x3mm, Pitch 0.65mm, Thermal Pad 1.89x1.57mm, IPC High Density)
footprint DGN8-1760X1425TP_M (TSOP, 8-Leads, Body 3x3mm, Pitch 0.65mm, Thermal Pad 1.89x1.57mm, IPC Low Density)
pins: 1 GND (power) "Ground connection", 2 IN (power) "Input voltage and power-switch drain; connect a 0.1 uF or greater ceramic capacitor from IN to GND close to the IC", 3 ~{EN1} (in) "Enable input channel 1, logic low turns on power switch", 4 ~{EN2} (in) "Enable input channel 2, logic high turns on power switch", 5 ~{FLT2} (hiz) "Active-low open-drain output, asserted during overcurrent, or overtemperature conditions on channel 2", 6 OUT2 (power) "Power-switch output channel 2, connected to load", 7 OUT1 (power) "Power-switch output channel 1, connected to load", 8 ~{FLT1} (hiz) "Active-low open-drain output, asserted during overcurrent, or overtemperature conditions on channel 1", 9 EP (power) "Internally connected to GND; used to heat-sink the part to the circuit board traces. Connect PAD to GND plane as a heatsink."

## TPS2062CDGNR
designator U?
Dual-Channel, Current-Limited, Power-Distribution Switch, 1.11 to 1.85 A Current Limit, -40 to 85 degC, 8-pin MSOP-PowerPAD (DGN), Green (RoHS & no Sb/Br); Manufacturer: Texas Instruments; PartNumber: TPS2062CDGNR; Continuous Current(Max)(A): 1; Current Limit Accuracy @ 1A: +/- 25%; Current Limit Topology: Constant-Current; Enable: Active Low; Number of Switches: 2; Rating: Catalog; rDS(on) per FET(Typ)(mOhms): 70; Vin(Max)(V): 5.5; Vin(Min)(V): 4.5; DatasheetVersion: SLVSAX6E; PackageVersion: revF, May-2011; PackageReference: DGN8-1760X1425TP; PackageDescription: 8-Pin PowerPAD Plastic Small Outline Package 3 x 3 mm Body ,0.65 mm Pitch, Exposed Pad; Supplier 1: Digi-Key; Supplier Part Number 1: TPS2062CDGNR-ND; Supplier 2: Newark; Supplier Part Number 2: 92T2356; Supplier 3: Mouser; Supplier Part Number 3: 595-TPS2062CDGNR; Current Limit(A): 1.11 to 1.85; Eco-Plan: Green (RoHS & no Sb/Br); Mounting Technology: Surface Mount; Code_JEDEC: MO-187-AA-T; ComponentLink1Description: Datasheet; ComponentLink1URL: http://www.ti.com/general/docs/lit/getliterature.tsp?genericPartNumber=TPS2062C&fileType=pdf
footprint DGN8-1760X1425TP_N (TSOP, 8-Leads, Body 3x3mm, Pitch 0.65mm, Thermal Pad 1.89x1.57mm, IPC Medium Density)
footprint DGN8-1760X1425TP_L (TSOP, 8-Leads, Body 3x3mm, Pitch 0.65mm, Thermal Pad 1.89x1.57mm, IPC High Density)
footprint DGN8-1760X1425TP_M (TSOP, 8-Leads, Body 3x3mm, Pitch 0.65mm, Thermal Pad 1.89x1.57mm, IPC Low Density)
pins: 1 GND (power) "Ground connection", 2 IN (power) "Input voltage and power-switch drain; connect a 0.1 uF or greater ceramic capacitor from IN to GND close to the IC", 3 ~{EN1} (in) "Enable input channel 1, logic low turns on power switch", 4 ~{EN2} (in) "Enable input channel 2, logic high turns on power switch", 5 ~{FLT2} (hiz) "Active-low open-drain output, asserted during overcurrent, or overtemperature conditions on channel 2", 6 OUT2 (power) "Power-switch output channel 2, connected to load", 7 OUT1 (power) "Power-switch output channel 1, connected to load", 8 ~{FLT1} (hiz) "Active-low open-drain output, asserted during overcurrent, or overtemperature conditions on channel 1", 9 EP (power) "Internally connected to GND; used to heat-sink the part to the circuit board traces. Connect PAD to GND plane as a heatsink."

## TPS2062CDR
designator U?
Dual-Channel, Current-Limited, Power-Distribution Switch, 1.11 to 1.85 A Current Limit, -40 to 85 degC, 8-pin SOIC (D), Green (RoHS & no Sb/Br); Manufacturer: Texas Instruments; PartNumber: TPS2062CDR; Continuous Current(Max)(A): 1; Current Limit Accuracy @ 1A: +/- 25%; Current Limit Topology: Constant-Current; Enable: Active Low; Number of Switches: 2; Rating: Catalog; rDS(on) per FET(Typ)(mOhms): 70; Vin(Max)(V): 5.5; Vin(Min)(V): 4.5; DatasheetVersion: SLVSAX6E; PackageVersion: revM, Jun-2011; PackageReference: D8; PackageDescription: 8-Pin Plastic Small Outline Integrated Circuit, 4.9 x 3.9 mm, Pitch 1.27 mm Pitch; Supplier 1: Digi-Key; Supplier Part Number 1: TPS2062CDR-ND; Supplier 2: Newark; Supplier Part Number 2: 27W9718; Supplier 3: Mouser; Supplier Part Number 3: 595-TPS2062CDR; Current Limit(A): 1.11 to 1.85; Eco-Plan: Green (RoHS & no Sb/Br); Mounting Technology: Surface Mount; Code_JEDEC: MS-012AA; ComponentLink1Description: Datasheet; ComponentLink1URL: http://www.ti.com/general/docs/lit/getliterature.tsp?genericPartNumber=TPS2062C&fileType=pdf
footprint D8_N (SOIC, 8-Leads, Body 4.9x3.9mm, Pitch 1.27mm, IPC Medium Density)
footprint D8_L (SOIC, 8-Leads, Body 4.9x3.9mm, Pitch 1.27mm, IPC High Density)
footprint D8_M (SOIC, 8-Leads, Body 4.9x3.9mm, Pitch 1.27mm, IPC Low Density)
pins: 1 GND (power) "Ground connection", 2 IN (in) "Input voltage and power-switch drain; connect a 0.1 uF or greater ceramic capacitor from IN to GND close to the IC", 3 ~{EN1} (in) "Enable input channel 1, logic low turns on power switch", 4 ~{EN2} (in) "Enable input channel 2, logic low turns on power switch", 5 ~{FLT2} (hiz) "Active-low open-drain output, asserted during overcurrent, or overtemperature conditions on channel 2", 6 OUT 2 (power) "Power-switch output channel 2, connected to load", 7 OUT 1 (power) "Power-switch output channel 1, connected to load", 8 ~{FLT1} (hiz) "Active-low open-drain output, asserted during over-current, or overtemperature conditions on channel 1"

## TPS2062D
designator U?
Dual 1 A Current-Limited, Power-Distribution Switch, 1.5 A Current Limit, -40 to 85 degC, 8-pin SOIC (D), Green (RoHS & no Sb/Br); Manufacturer: Texas Instruments; PartNumber: TPS2062D; Continuous Current(Max)(A): 1; Current Limit(A): 1.5; Enable: Active Low; NEMKO: TRUE; Number of Switches: 2; Rating: Catalog; rDS(on) per FET(Typ)(mOhms): 70; Vin(Max)(V): 5.5; Vin(Min)(V): 2.7; DatasheetVersion: SLVS490I; PackageVersion: revM, Jun-2011; PackageReference: D8; PackageDescription: 8-Pin Plastic Small Outline Integrated Circuit, 4.9 x 3.9 mm, Pitch 1.27 mm Pitch; Supplier 1: Digi-Key; Supplier Part Number 1: 296-18933-5-ND; Supplier 2: Newark; Supplier Part Number 2: 90H4835; Supplier 3: Mouser; Supplier Part Number 3: 595-TPS2062D; Eco-Plan: Green (RoHS & no Sb/Br); UL Listed: TRUE; Mounting Technology: Surface Mount; Code_JEDEC: MS-012AA; ComponentLink1Description: Datasheet; ComponentLink1URL: http://www.ti.com/general/docs/lit/getliterature.tsp?genericPartNumber=TPS2062&fileType=pdf
footprint D8_N (SOIC, 8-Leads, Body 4.9x3.9mm, Pitch 1.27mm, IPC Medium Density)
footprint D8_L (SOIC, 8-Leads, Body 4.9x3.9mm, Pitch 1.27mm, IPC High Density)
footprint D8_M (SOIC, 8-Leads, Body 4.9x3.9mm, Pitch 1.27mm, IPC Low Density)
pins: 1 GND (power) "Ground", 2 IN (power) "Input voltage", 3 ~{EN1} (in) "Enable input, logic low turns on power switch IN-OUT1", 4 ~{EN2} (in) "Enable input, logic low turns on power switch IN-OUT2", 5 ~{OC2} (oc) "Overcurrent, open-drain output, active low, IN-OUT2", 6 OUT2 (power) "Power-switch output, IN-OUT2", 7 OUT1 (power) "Power-switch output, IN-OUT1", 8 ~{OC1} (oc) "Overcurrent, open-drain output, active low, IN-OUT1"

## TPS2062D-1
designator U?
Current-Limited, Power-Distribution Switch with Output Discharge Resistor, 1.5 A Current Limit, -40 to 85 degC, 8-pin SOIC (D), Green (RoHS & no Sb/Br); Manufacturer: Texas Instruments; PartNumber: TPS2062D-1; Continuous Current(Max)(A): 1; Current Limit(A): 1.5; Discharge Function: TRUE; Enable: Active Low; Number of Switches: 2; Rating: Catalog; rDS(on) per FET(Typ)(mOhms): 70; Vin(Max)(V): 5.5; Vin(Min)(V): 2.7; DatasheetVersion: SLVS714A; PackageVersion: revM, Jun-2011; PackageReference: D8; PackageDescription: 8-Pin Plastic Small Outline Integrated Circuit, 4.9 x 3.9 mm, Pitch 1.27 mm Pitch; Supplier 1: Digi-Key; Supplier Part Number 1: TPS2062D-1-ND; Supplier 2: Newark; Supplier Part Number 2: 34M0138; Supplier 3: Mouser; Supplier Part Number 3: 595-TPS2062D-1; Eco-Plan: Green (RoHS & no Sb/Br); Mounting Technology: Surface Mount; Code_JEDEC: MS-012AA; ComponentLink1Description: Datasheet; ComponentLink1URL: http://www.ti.com/general/docs/lit/getliterature.tsp?genericPartNumber=TPS2062-1&fileType=pdf
footprint D8_N (SOIC, 8-Leads, Body 4.9x3.9mm, Pitch 1.27mm, IPC Medium Density)
footprint D8_L (SOIC, 8-Leads, Body 4.9x3.9mm, Pitch 1.27mm, IPC High Density)
footprint D8_M (SOIC, 8-Leads, Body 4.9x3.9mm, Pitch 1.27mm, IPC Low Density)
pins: 1 GND (power) "Ground connection", 2 IN (power) "Input voltage; connect a 0.1 uF or greater ceramic capacitor from IN to GND as close to the IC as possible", 3 ~{EN1} (in) "Enable input, logic low turns on channel 1", 4 ~{EN2} (in) "Enable input, logic high turns on channel 2", 5 ~{OC2} (oc) "Active-low open-drain output, asserted during over-current for channel 2", 6 OUT2 (power) "Power-switch output for channel 2", 7 OUT1 (power) "Power-switch output for channel 1", 8 ~{OC1} (oc) "Active-low open-drain output, asserted during over-current for channel 1"

## TPS2062D-1G4
designator U?
Current-Limited, Power-Distribution Switch with Output Discharge Resistor, 1.5 A Current Limit, -40 to 85 degC, 8-pin SOIC (D), Green (RoHS & no Sb/Br); Manufacturer: Texas Instruments; PartNumber: TPS2062D-1G4; Continuous Current(Max)(A): 1; Current Limit(A): 1.5; Discharge Function: TRUE; Enable: Active Low; Number of Switches: 2; Rating: Catalog; rDS(on) per FET(Typ)(mOhms): 70; Vin(Max)(V): 5.5; Vin(Min)(V): 2.7; DatasheetVersion: SLVS714A; PackageVersion: revM, Jun-2011; PackageReference: D8; PackageDescription: 8-Pin Plastic Small Outline Integrated Circuit, 4.9 x 3.9 mm, Pitch 1.27 mm Pitch; Supplier 1: Digi-Key; Supplier Part Number 1: TPS2062D-1G4-ND; Supplier 2: Newark; Supplier Part Number 2: 41M5845; Supplier 3: Mouser; Supplier Part Number 3: 595-TPS2062D-1G4; Eco-Plan: Green (RoHS & no Sb/Br); Mounting Technology: Surface Mount; Code_JEDEC: MS-012AA; ComponentLink1Description: Datasheet; ComponentLink1URL: http://www.ti.com/general/docs/lit/getliterature.tsp?genericPartNumber=TPS2062-1&fileType=pdf
footprint D8_N (SOIC, 8-Leads, Body 4.9x3.9mm, Pitch 1.27mm, IPC Medium Density)
footprint D8_L (SOIC, 8-Leads, Body 4.9x3.9mm, Pitch 1.27mm, IPC High Density)
footprint D8_M (SOIC, 8-Leads, Body 4.9x3.9mm, Pitch 1.27mm, IPC Low Density)
pins: 1 GND (power) "Ground connection", 2 IN (power) "Input voltage; connect a 0.1 uF or greater ceramic capacitor from IN to GND as close to the IC as possible", 3 ~{EN1} (in) "Enable input, logic low turns on channel 1", 4 ~{EN2} (in) "Enable input, logic high turns on channel 2", 5 ~{OC2} (oc) "Active-low open-drain output, asserted during over-current for channel 2", 6 OUT2 (power) "Power-switch output for channel 2", 7 OUT1 (power) "Power-switch output for channel 1", 8 ~{OC1} (oc) "Active-low open-drain output, asserted during over-current for channel 1"

## TPS2062DG4
designator U?
Dual 1 A Current-Limited, Power-Distribution Switch, 1.5 A Current Limit, -40 to 85 degC, 8-pin SOIC (D), Green (RoHS & no Sb/Br); Manufacturer: Texas Instruments; PartNumber: TPS2062DG4; Continuous Current(Max)(A): 1; Current Limit(A): 1.5; Enable: Active Low; NEMKO: TRUE; Number of Switches: 2; Rating: Catalog; rDS(on) per FET(Typ)(mOhms): 70; Vin(Max)(V): 5.5; Vin(Min)(V): 2.7; DatasheetVersion: SLVS490I; PackageVersion: revM, Jun-2011; PackageReference: D8; PackageDescription: 8-Pin Plastic Small Outline Integrated Circuit, 4.9 x 3.9 mm, Pitch 1.27 mm Pitch; Supplier 1: Digi-Key; Supplier Part Number 1: TPS2062DG4-ND; Supplier 2: Newark; Supplier Part Number 2: 31K7809; Supplier 3: Mouser; Supplier Part Number 3: 595-TPS2062DG4; Eco-Plan: Green (RoHS & no Sb/Br); UL Listed: TRUE; Mounting Technology: Surface Mount; Code_JEDEC: MS-012AA; ComponentLink1Description: Datasheet; ComponentLink1URL: http://www.ti.com/general/docs/lit/getliterature.tsp?genericPartNumber=TPS2062&fileType=pdf
footprint D8_N (SOIC, 8-Leads, Body 4.9x3.9mm, Pitch 1.27mm, IPC Medium Density)
footprint D8_L (SOIC, 8-Leads, Body 4.9x3.9mm, Pitch 1.27mm, IPC High Density)
footprint D8_M (SOIC, 8-Leads, Body 4.9x3.9mm, Pitch 1.27mm, IPC Low Density)
pins: 1 GND (power) "Ground", 2 IN (power) "Input voltage", 3 ~{EN1} (in) "Enable input, logic low turns on power switch IN-OUT1", 4 ~{EN2} (in) "Enable input, logic low turns on power switch IN-OUT2", 5 ~{OC2} (oc) "Overcurrent, open-drain output, active low, IN-OUT2", 6 OUT2 (power) "Power-switch output, IN-OUT2", 7 OUT1 (power) "Power-switch output, IN-OUT1", 8 ~{OC1} (oc) "Overcurrent, open-drain output, active low, IN-OUT1"

## TPS2062DR
designator U?
Dual 1 A Current-Limited, Power-Distribution Switch, 1.5 A Current Limit, -40 to 85 degC, 8-pin SOIC (D), Green (RoHS & no Sb/Br); Manufacturer: Texas Instruments; PartNumber: TPS2062DR; Continuous Current(Max)(A): 1; Current Limit(A): 1.5; Enable: Active Low; NEMKO: TRUE; Number of Switches: 2; Rating: Catalog; rDS(on) per FET(Typ)(mOhms): 70; Vin(Max)(V): 5.5; Vin(Min)(V): 2.7; DatasheetVersion: SLVS490I; PackageVersion: revM, Jun-2011; PackageReference: D8; PackageDescription: 8-Pin Plastic Small Outline Integrated Circuit, 4.9 x 3.9 mm, Pitch 1.27 mm Pitch; Supplier 1: Digi-Key; Supplier Part Number 1: 296-26916-2-ND; Supplier 2: Digi-Key; Supplier Part Number 2: 296-26916-1-ND; Supplier 3: Digi-Key; Supplier Part Number 3: 296-26916-6-ND; Supplier 4: Newark; Supplier Part Number 4: 90H4836; Supplier 5: Mouser; Supplier Part Number 5: 595-TPS2062DR; Eco-Plan: Green (RoHS & no Sb/Br); UL Listed: TRUE; Mounting Technology: Surface Mount; Code_JEDEC: MS-012AA; ComponentLink1Description: Datasheet; ComponentLink1URL: http://www.ti.com/general/docs/lit/getliterature.tsp?genericPartNumber=TPS2062&fileType=pdf
footprint D8_N (SOIC, 8-Leads, Body 4.9x3.9mm, Pitch 1.27mm, IPC Medium Density)
footprint D8_L (SOIC, 8-Leads, Body 4.9x3.9mm, Pitch 1.27mm, IPC High Density)
footprint D8_M (SOIC, 8-Leads, Body 4.9x3.9mm, Pitch 1.27mm, IPC Low Density)
pins: 1 GND (power) "Ground", 2 IN (power) "Input voltage", 3 ~{EN1} (in) "Enable input, logic low turns on power switch IN-OUT1", 4 ~{EN2} (in) "Enable input, logic low turns on power switch IN-OUT2", 5 ~{OC2} (oc) "Overcurrent, open-drain output, active low, IN-OUT2", 6 OUT2 (power) "Power-switch output, IN-OUT2", 7 OUT1 (power) "Power-switch output, IN-OUT1", 8 ~{OC1} (oc) "Overcurrent, open-drain output, active low, IN-OUT1"